# EAGLE library part AD8244BRMZ (library open_covg)
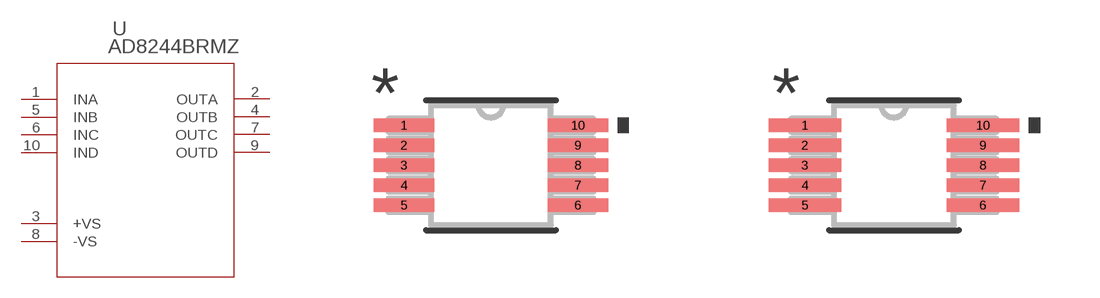
[diagram p25: symbol with the pads of RM_10_ADI; footprints RM_10_ADI, RM_10_ADI-M]

Designator prefix U

## AD8244BRMZ (BUILT_BY: EMA_Christopher; COPYRIGHT: Copyright (C) 2016 Accelerated Designs. All rights reserved; MANUFACTURER_PART_NUMBER: AD8244BRMZ; SOURCELIBRARY: Analog_Devices_2018-07-13; VENDOR: Analog Devices Inc)  [RM_10_ADI]
1  INA  in
2  OUTA  out
3  +VS  pwr
4  OUTB  out
5  INB  in
6  INC  in
7  OUTC  out
8  -VS  pwr
9  OUTD  out
10  IND  in

## AD8244BRMZRM_10_ADI-M (BUILT_BY: EMA_Christopher; COPYRIGHT: Copyright (C) 2016 Accelerated Designs. All rights reserved; MANUFACTURER_PART_NUMBER: AD8244BRMZ; SOURCELIBRARY: Analog_Devices_2018-07-13; VENDOR: Analog Devices Inc)  [RM_10_ADI-M]
Pads as for RM_10_ADI

## AD8244BRMZRM_10_ADI-L (BUILT_BY: EMA_Christopher; COPYRIGHT: Copyright (C) 2016 Accelerated Designs. All rights reserved; MANUFACTURER_PART_NUMBER: AD8244BRMZ; SOURCELIBRARY: Analog_Devices_2018-07-13; VENDOR: Analog Devices Inc)  [RM_10_ADI-L]
Pads as for RM_10_ADI

## Footprint RM_10_ADI (pad centres in mm)
smd 1.511 x 0.33: 1 -2.175,1; 2 -2.175,0.5; 3 -2.175,0; 4 -2.175,-0.5; 5 -2.175,-1; 6 2.175,-1; 7 2.175,-0.5; 8 2.175,0; 9 2.175,0.5; 10 2.175,1

## Footprint RM_10_ADI-M (pad centres in mm)
smd 1.816 x 0.33: 1 -2.226,1; 2 -2.226,0.5; 3 -2.226,0; 4 -2.226,-0.5; 5 -2.226,-1; 6 2.226,-1; 7 2.226,-0.5; 8 2.226,0; 9 2.226,0.5; 10 2.226,1

## Footprint RM_10_ADI-L (pad centres in mm)
smd 1.206 x 0.279: 1 -2.124,1; 2 -2.124,0.5; 3 -2.124,0; 4 -2.124,-0.5; 5 -2.124,-1; 6 2.124,-1; 7 2.124,-0.5; 8 2.124,0; 9 2.124,0.5; 10 2.124,1